# Altium footprint library Molex_Library.PcbLib: 6 footprints
Each footprint in its own frame and in the unit in brackets; x right, y up, seen from the top. Pads: shape width x height; smd on the part's side, far side on the other; paste and mask are expansions set on the pad; w line width, h text height; cw(c..) or ccw(c..) is an arc to the next point about the centre after c.
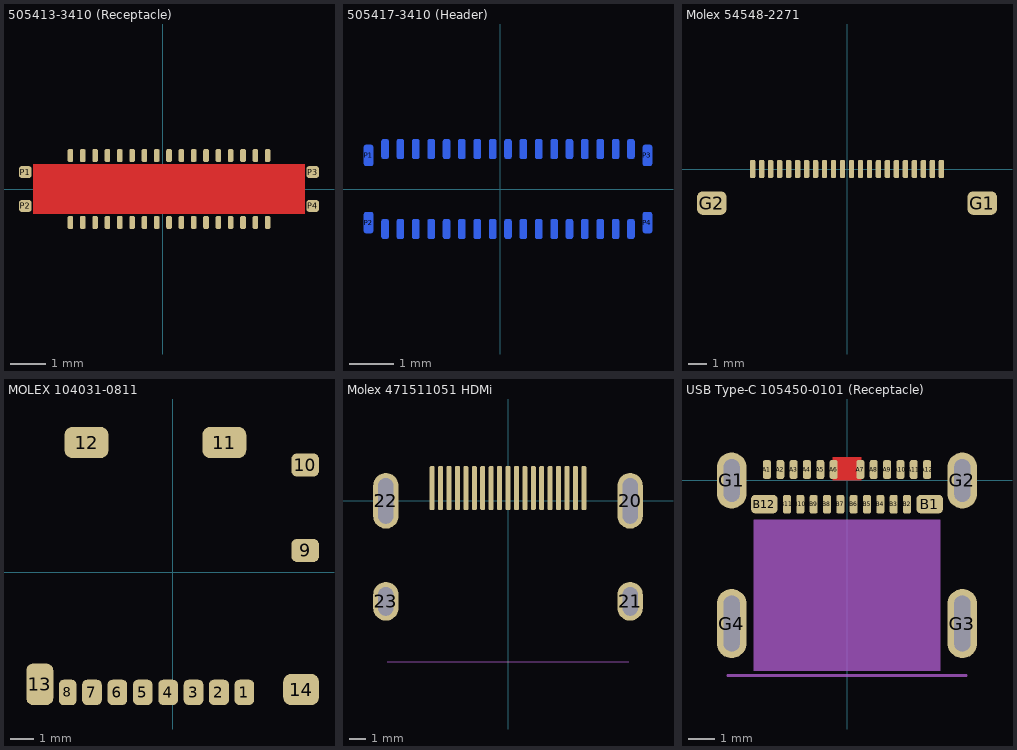
[diagram p0: the footprints below, top view; thin cyan lines are the x and y axes]

## 505413-3410 (Receptacle) [mm] "505413-3410 (Receptacle)"
pads (38):
  rrect50% 0.16x0.36 smd mask+0.05: 1(-2.625,-0.95) 2(-2.275,-0.95) 3(-1.925,-0.95) 4(-1.575,-0.95) 5(-1.225,-0.95) 6(-0.875,-0.95) 7(-0.525,-0.95) 8(-0.175,-0.95) 9(0.175,-0.95) 10(0.525,-0.95) 11(0.875,-0.95) 12(1.225,-0.95) 13(1.575,-0.95) 14(1.925,-0.95) 15(2.275,-0.95) 16(2.625,-0.95) 17(2.975,-0.95) 18(2.975,0.95) 19(2.625,0.95) 20(2.275,0.95) 21(1.925,0.95) 22(1.575,0.95) 23(1.225,0.95) 24(0.875,0.95) 25(0.525,0.95) 26(0.175,0.95) 27(-0.175,0.95) 28(-0.525,0.95) 29(-0.875,0.95) 30(-1.225,0.95) 31(-1.575,0.95) 32(-1.925,0.95) 33(-2.275,0.95) 34(-2.625,0.95)
  rrect50% 0.36x0.34 smd mask+0.05: P1(-3.905,0.48) P2(-3.905,-0.48) P3(4.252,0.48) P4(4.252,-0.48)
Top Layer:
  pour cut-out: -3.675,0.7 -3.675,-0.7 4.025,-0.7 4.025,0.7
Top Solder:
  rectangle: -2.62,0.72 2.97,1.18
  rectangle: -2.62,-1.18 2.97,-0.72
3D body "505413-3410.stp": height 0.77, standoff -0.01, extent -4.025,-1 4.375,1

## 505417-3410 (Header) [mm] "505417-3410 (Header)"
pads (38):
  rrect50% 0.16x0.44 smd far side mask+0.05: 1(-2.625,-0.91) 2(-2.275,-0.91) 3(-1.925,-0.91) 4(-1.575,-0.91) 5(-1.225,-0.91) 6(-0.875,-0.91) 7(-0.525,-0.91) 8(-0.175,-0.91) 9(0.175,-0.91) 10(0.525,-0.91) 11(0.875,-0.91) 12(1.225,-0.91) 13(1.575,-0.91) 14(1.925,-0.91) 15(2.275,-0.91) 16(2.625,-0.91) 17(2.975,-0.91) 18(2.975,0.91) 19(2.625,0.91) 20(2.275,0.91) 21(1.925,0.91) 22(1.575,0.91) 23(1.225,0.91) 24(0.875,0.91) 25(0.525,0.91) 26(0.175,0.91) 27(-0.175,0.91) 28(-0.525,0.91) 29(-0.875,0.91) 30(-1.225,0.91) 31(-1.575,0.91) 32(-1.925,0.91) 33(-2.275,0.91) 34(-2.625,0.91)
  rrect50% 0.21x0.48 smd far side mask+0.05: P1(-3,0.765) P2(-3,-0.765) P3(3.35,0.765) P4(3.35,-0.765)
3D body "505417-3410.stp": height 0.8, standoff 0, extent -3.455,-1 3.805,1

## Molex 54548-2271 [mm]
pads (24):
  rrect50% 0.3x1 smd mask+0.05: 1(5.25,0) 2(4.75,0) 3(4.25,0) 4(3.75,0) 5(3.25,0) 6(2.75,0) 7(2.25,0) 8(1.75,0) 9(1.25,0) 10(0.75,0) 11(0.25,0) 12(-0.25,0) 13(-0.75,0) 14(-1.25,0) 15(-1.75,0) 16(-2.25,0) 17(-2.75,0) 18(-3.25,0) 19(-3.75,0) 20(-4.25,0) 21(-4.75,0) 22(-5.25,0)
  rrect50% 1.65x1.3 smd mask+0.05: G1(7.525,-1.9) G2(-7.525,-1.9)
3D body "54548-2271.x_t": height 1.2, standoff 0, extent -8.1,-4.8 8.1,0.2

## MOLEX 104031-0811 [mm] "Micro SD Card"
pads (14):
  rrect50% 0.85x1.1 smd: 1(3.105,-5.2) 3(0.905,-5.2) 4(-0.195,-5.2) 5(-1.295,-5.2) 6(-2.395,-5.2) 7(-3.495,-5.2)
  rrect50% 0.875x1.1 smd: 2(2.005,-5.2)
  rrect50% 0.75x1.1 smd: 8(-4.545,-5.2)
  rrect50% 1.2x1 smd: 9(5.74,0.95) 10(5.74,4.65)
  rrect50% 1.9x1.35 smd: 11(2.24,5.625) 12(-3.73,5.625)
  rrect50% 1.17x1.8 smd: 13(-5.755,-4.85)
  rrect50% 1.55x1.35 smd: 14(5.565,-5.075)
3D body "1040310811.stp": height 1.44, standoff -0.01, extent -5.98,-5.46 5.97,5.94

## Molex 471511051 HDMi [mm] "Molex 471511051"
pads (23):
  rrect50% 0.3x2.6 smd mask+0.05: 1(4.5,0.76) 2(4,0.76) 3(3.5,0.76) 4(3,0.76) 5(2.5,0.76) 6(2,0.76) 7(1.5,0.76) 8(1,0.76) 9(0.5,0.76) 10(0,0.76) 11(-0.5,0.76) 12(-1,0.76) 13(-1.5,0.76) 14(-2,0.76) 15(-2.5,0.76) 16(-3,0.76) 17(-3.5,0.76) 18(-4,0.76) 19(-4.5,0.76)
  rrect100% 1.5x3.3 hole 0.9 slot 2.7 at 90 deg: 20(7.25,0) 22(-7.25,0)
  rrect100% 1.5x2.3 hole 0.9 slot 1.7 at 90 deg: 21(7.25,-5.96) 23(-7.25,-5.96)
Mechanical 13:
  lines w0.05: -7.15,-9.55 7.16,-9.55
  text "Board Edge" at -2.61,-9.21 h0.5
3D body "471510002.stp": height 16.17, standoff -2.1, extent -7.55,-10.5 7.45,1.65

## USB Type-C 105450-0101 (Receptacle) [mm] "105450-0101"
pads (28):
  rrect50% 0.3x0.7 smd mask+0.05: A1(-3,0.41) A2(-2.5,0.41) A3(-2,0.41) A4(-1.5,0.41) A5(-1,0.41) A6(-0.5,0.41) A7(0.5,0.41) A8(1,0.41) A9(1.5,0.41) A10(2,0.41) A11(2.5,0.41) A12(3,0.41) B2(2.25,-0.89) B3(1.75,-0.89) B4(1.25,-0.89) B5(0.75,-0.89) B6(0.25,-0.89) B7(-0.25,-0.89) B8(-0.75,-0.89) B9(-1.25,-0.89) B10(-1.75,-0.89) B11(-2.25,-0.89)
  rrect50% 1x0.7 smd mask+0.05: B1(3.1,-0.89) B12(-3.1,-0.89)
  rrect100% 1.1x2.1 hole 0.6 slot 1.6 at 90 deg mask+0.05: G1(-4.32,0) G2(4.32,0)
  rrect100% 1.1x2.6 hole 0.6 slot 2.1 at 90 deg: G3(4.32,-5.36) G4(-4.32,-5.36)
Top Layer:
  pour cut-out: -0.525,0.875 0.525,0.875 0.525,0 -0.525,0
Mechanical 1:
  pour cut-out: -3.5,-1.48 3.5,-1.48 3.5,-7.13 -3.5,-7.13
  lines w0.1: -4.47,-7.31 0,-7.31 4.47,-7.31
3D body "105450-0101_Receptacle.stp": height 3.21, standoff -0.75, extent -4.47,-7.13 4.47,0.77